# Altium schematic symbol library AMS_Slave_Lib.SchLib: 2 symbols
Pins are listed as number, name and electrical type; pins without a type are passive.

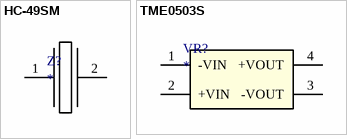
[diagram p0: symbols HC-49SM to TME0503S]

## HC-49SM
designator Z?
Crystal Resonator; HelpURL: https://www.chipdip.ru/product/8mhz-hc-49sm
footprint HC-49SM (Crystal Resonator)
pins: 1, 2

## TME0503S
designator VR?
DC-DC Converter 5V-3.3V
footprint TME (DC-DC Converter)
pins: 1 -VIN, 2 +VIN, 3 -VOUT, 4 +VOUT